# EAGLE library part 8HEADER (library Badge)
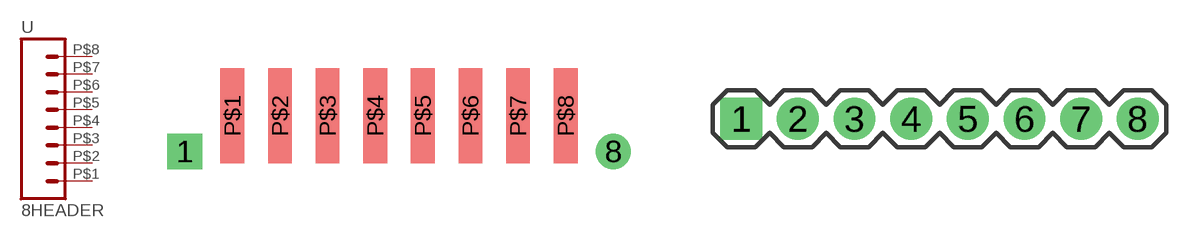
[diagram p3: symbol with the pads of F_HEADER_COPPER_SIDE; footprints F_HEADER_COPPER_SIDE, 1X08_ROUND]

Designator prefix -

## 8HEADERF  [F_HEADER_COPPER_SIDE]
P$1  1  pas
P$2  2  pas
P$3  3  pas
P$4  4  pas
P$5  5  pas
P$6  6  pas
P$7  7  pas
P$8  8  pas

## 8HEADERM  [1X08_ROUND]
1  1  pas
2  2  pas
3  3  pas
4  4  pas
5  5  pas
6  6  pas
7  7  pas
8  8  pas

## Footprint F_HEADER_COPPER_SIDE (pad centres in mm)
drill 1.016 pad 1.88 square: 1 -2.54,0
drill 1.016 pad 1.88: 8 20.32,0
smd 1.27 x 5.08: P$1 0,1.905; P$2 2.54,1.905; P$3 5.08,1.905; P$4 7.62,1.905; P$5 10.16,1.905; P$6 12.7,1.905; P$7 15.24,1.905; P$8 17.78,1.905

## Footprint 1X08_ROUND (pad centres in mm)
drill 1.016 pad 1.88 square: 1 0,0
drill 1.016 pad 1.88: 2 2.54,0; 3 5.08,0; 4 7.62,0; 5 10.16,0; 6 12.7,0; 7 15.24,0; 8 17.78,0